# EAGLE library part 74LVC2G125 (library nxp_60)
Dual bus buffer/line driver; 3-state The 74LVC2G125 provides a dual non-inverting buffer/line driver with 3-state output. The 3-state output is controlled by the output enable input (pin nOE). A HIGH-level at pin nOE causes the output to assume a high-impedance OFF-state. Schmitt trigger action at all inputs makes the circuit highly tolerant of slower input rise and fall times. Inputs can be driven from either 3.3 V or 5 V devices. This feature allows the use of these devices as translators in a mixed 3.3 V and 5 V environment. This device is fully specified for partial power-down applications using IOFF. The IOFF circuitry disables the output, preventing a damaging backflow current through the device when it is powered down. AAL Eindhoven MK
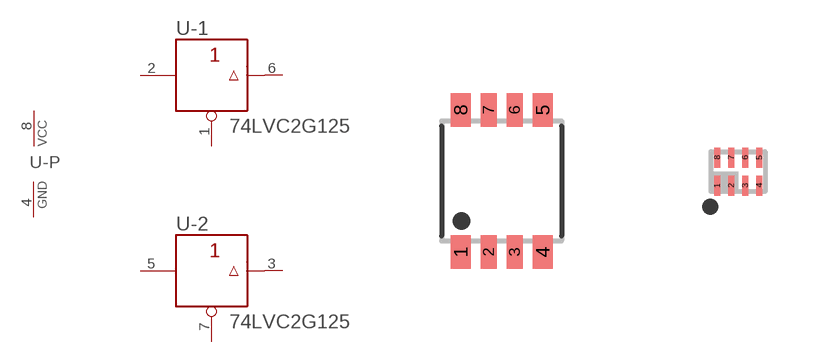
[diagram p108: symbol with the pads of SOT505-2; footprints SOT505-2, SOT1089-1]

Designator prefix U; gates -1=BUFFER_OE -2=BUFFER_OE -P=PWRN

## 74LVC2G125DP  [SOT505-2]
1  -1:OEN  in
2  -1:A  in
3  -2:Y  out
4  -P:GND  pwr
5  -2:A  in
6  -1:Y  out
7  -2:OEN  in
8  -P:VCC  pwr

## 74LVC2G125GF  [SOT1089-1]
Pads as for SOT505-2

## 74LVC2G125GD  [SOT996-2/3]
Pads as for SOT505-2

## 74LVC2G125GM  [SOT902]
1  -2:OEN  in
2  -1:Y  out
3  -2:A  in
4  -P:GND  pwr
5  -2:Y  out
6  -1:A  in
7  -1:OEN  in
8  -P:VCC  pwr

## 74LVC2G125DC  [SOT765]
Pads as for SOT505-2

## 74LVC2G125GT  [SOT833-1]
Pads as for SOT505-2

## Footprint SOT505-2 (pad centres in mm)
SOT505-2 TSSOP8: plastic thin shrink small outline package; 8 leads; body width 3 mm JEDEC: -- IEC: --
smd 0.5 x 0.85: 1 -1.025,-1.775; 4 1.025,-1.775; 5 1.025,1.775; 8 -1.025,1.775
smd 0.4 x 0.85: 2 -0.325,-1.775; 3 0.325,-1.775; 6 0.325,1.775; 7 -0.325,1.775

## Footprint SOT1089-1 (pad centres in mm)
SOT1089-1 XSON8: plastic, extremely thin small outline package; no leads; 8 terminals; body 1 x 1.35 x 0.5 mm JEDEC: -- IEC: -- JEITA: --
smd 0.15 x 0.5: 1 -0.525,-0.35; 2 -0.175,-0.35; 3 0.175,-0.35; 4 0.525,-0.35; 5 0.525,0.35; 6 0.175,0.35; 7 -0.175,0.35; 8 -0.525,0.35

## Footprint SOT996-2/3 (pad centres in mm)
SOT996-2/3 XSON8U: plastic extremely thin small outline package; no leads;8 terminals; UTLP based; body 3 x 2 x 0.5 mm JEDEC: IEC: -- JEITA: --
smd 0.25 x 1.1: 1 -0.75,-1.45
smd 0.25 x 1: 2 -0.25,-1.5; 3 0.25,-1.5; 4 0.75,-1.5; 5 0.75,1.5; 6 0.25,1.5; 7 -0.25,1.5; 8 -0.75,1.5

## Footprint SOT902 (pad centres in mm)
SOT902 XQFN8U: plastic extremely thin quad flat package; no leads; 8 terminals; UTLP based; body 1.6 x 1.6 x 0.5 mm JEDEC: -- IEC: ---
smd 0.4 x 0.32: 1 0.6,-0.55
smd 0.4 x 0.22: 2 0.6,0; 3 0.6,0.5; 5 -0.6,0.5; 6 -0.6,0; 7 -0.6,-0.5
smd 0.22 x 0.4: 4 0,0.6; 8 0,-0.6

## Footprint SOT765 (pad centres in mm)
SOT765 VSSOP8: plastic very thin shrink small outline package; 8 leads; body width 2.3 mm JEDEC: MO-187 IEC: -- JEITA: --
smd 0.4 x 0.75: 1 -0.8,-1.375; 4 0.8,-1.375; 5 0.8,1.375; 8 -0.8,1.375
smd 0.3 x 0.75: 2 -0.25,-1.375; 3 0.25,-1.375; 6 0.25,1.375; 7 -0.25,1.375

## Footprint SOT833-1 (pad centres in mm)
SOT833-1 XSON8: plastic extremely thin small outline package; no leads; 8 terminals; body 1 x 1.95 x 0.5 mm JEDEC: MO-252 IEC: -- JEITA: --
smd 0.3 x 1: 1 -0.775,-0.6
smd 0.25 x 0.95: 2 -0.25,-0.625; 3 0.25,-0.625; 6 0.25,0.625; 7 -0.25,0.625
smd 0.3 x 0.95: 4 0.775,-0.625; 5 0.775,0.625; 8 -0.775,0.625